# Altium footprint library FootPrintLib.PcbLib: 42 footprints (part 3 of 3)
Each footprint in its own frame and in the unit in brackets; x right, y up, seen from the top. Pads: shape width x height; smd on the part's side, far side on the other; paste and mask are expansions set on the pad; w line width, h text height; cw(c..) or ccw(c..) is an arc to the next point about the centre after c.
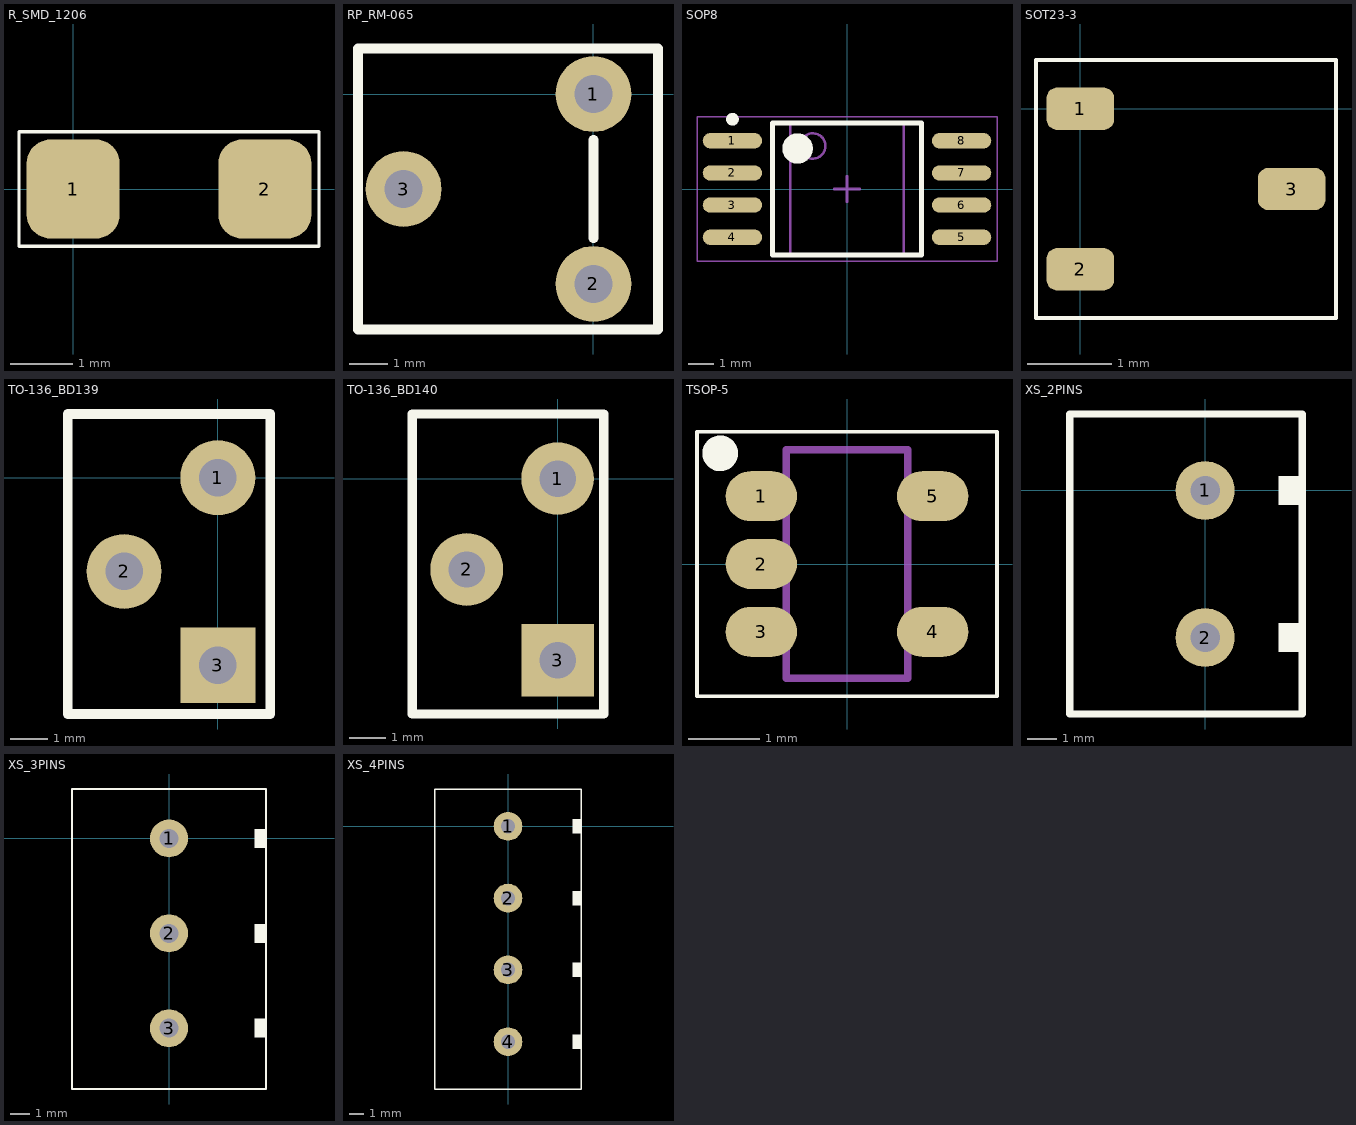
[diagram p2: the footprints below, top view; thin cyan lines are the x and y axes]

## R_SMD_1206 [mm]
pads (2):
  rrect50% 1.5x1.6 smd: 1(0,0) 2(3.1,0)
Top Overlay:
  lines w0.05: -0.875,-0.925 3.975,-0.925 3.975,0.925 -0.875,0.925 -0.875,-0.925
3D body "RES1206.stp": height 0.55, standoff 0, extent 0,-0.78 3.1,0.772

## RP_RM-065 [mm]
pads (3):
  round 2 hole 1: 1(0,0) 2(0,-5) 3(-5,-2.5)
Top Overlay:
  lines w0.254: 0,-3.8 0,-1.2 ; -6.2,-6.2 1.7,-6.2 1.7,1.2 -6.2,1.2 -6.2,-6.2
3D body "Potentiometer_Trim_THT.step": height 8.35, standoff -2.7, extent -5.6,-5.7 1.6,0.78

## SOP8 [mm]
height 2.65
pads (8):
  oval 2.35x0.6 smd: 1(-4.525,1.905) 2(-4.525,0.635) 3(-4.525,-0.635) 4(-4.525,-1.905) 5(4.525,-1.905) 6(4.525,-0.635) 7(4.525,0.635) 8(4.525,1.905)
Top Overlay:
  circle w0.25: c-4.525,2.755 r0.125
  circle w0.6: c-1.95,1.6 r0.3
  lines w0.2: -2.95,-2.6 -2.95,2.6 2.95,2.6 2.95,-2.6 -2.95,-2.6
Mechanical 13:
  circle w0.1: c-1.35,1.7 r0.5
  lines w0.1: -2.25,-2.6 -2.25,2.6 2.25,2.6 2.25,-2.6 -2.25,-2.6
Mechanical 15:
  lines w0.05: -5.925,-2.85 -5.925,2.85 5.925,2.85 5.925,-2.85 -5.925,-2.85
  lines w0.1: -0.5,0 0.5,0 ; 0,-0.5 0,0.5
3D body: height 2.65, standoff 0.1, extent -2.25,-2.6 2.25,2.6

## SOT23-3 [mm]
pads (3):
  rrect50% 0.8x0.5 smd: 1(0,0) 2(0,-1.9) 3(2.5,-0.95)
Top Overlay:
  lines w0.05: -0.525,-2.475 3.025,-2.475 3.025,0.575 -0.525,0.575 -0.525,-2.475
3D body "SOT23-3.step": height 1.1, standoff 0, extent 0,-2.45 2.5,0.55

## TO-136_BD139 [mm]
pads (3):
  round 2 hole 1: 1(0,0) 2(-2.5,-2.5)
  rect 2x2 hole 1: 3(0,-5)
Top Overlay:
  lines w0.254: -4,-6.3 1.397,-6.3 1.397,1.7 -4,1.7 -4,-6.3
3D body "BD139.stp": height 14.05, standoff -13, extent -1.634,-6.186 1.266,1.614

## TO-136_BD140 [mm]
pads (3):
  round 2 hole 1: 1(0,0) 2(-2.5,-2.5)
  rect 2x2 hole 1: 3(0,-5)
Top Overlay:
  lines w0.254: -4,-6.477 1.27,-6.477 1.27,1.778 -4,1.778 -4,-6.477
3D body "BD140.SLDPRT": height 12.4, standoff -14.4, extent -1.701,-6.3 1,1.5

## TSOP-5 [mm]
height 1
pads (5):
  oval 1x0.7 smd: 1(-1.2,0.95) 2(-1.2,0) 3(-1.2,-0.95) 4(1.2,-0.95) 5(1.2,0.95)
Top Overlay:
  circle w0.25: c-1.775,1.55 r0.125
  lines w0.05: -2.1,-1.85 2.1,-1.85 2.1,1.85 -2.1,1.85 -2.1,-1.85
Mechanical 13:
  lines w0.1: -0.85,-1.6 0.85,-1.6 0.85,1.6 -0.85,1.6 -0.85,-1.6
3D body: height 1, standoff 0.1, extent -0.85,-1.6 0.85,1.6

## XS_2PINS [mm]
pads (2):
  round 2 hole 1: 1(0,0) 2(0,-5)
Top Overlay:
  rectangle: 2.5,-0.5 3.3,0.5
  rectangle: 2.5,-5.5 3.3,-4.5
  lines w0.254: -4.6,-7.6 3.3,-7.6 3.3,2.6 -4.6,2.6 -4.6,-7.6
3D body "KF301-5.0-2P.step": height 11, standoff -2.6, extent -4.5,-7.5 3.2,2.5

## XS_3PINS [mm]
pads (3):
  round 2 hole 1: 1(0,0) 2(0,-5) 3(0,-10)
Top Overlay:
  rectangle: 4.5,-0.5 5.1,0.5
  rectangle: 4.5,-5.5 5.1,-4.5
  rectangle: 4.5,-10.5 5.1,-9.5
  lines w0.1: -5.1,-13.2 -5.1,2.6 5.1,2.6 5.1,-13.2 -5.1,-13.2
3D body "Terminal Block 3P.step": height 14, standoff -4.25, extent -5,-13.1 5,2.54

## XS_4PINS [mm]
pads (4):
  round 2 hole 1: 1(0,0) 2(0,-5) 3(0,-10) 4(0,-15)
Top Overlay:
  rectangle: 4.5,-0.5 5.1,0.5
  rectangle: 4.5,-5.5 5.1,-4.5
  rectangle: 4.5,-10.5 5.1,-9.5
  rectangle: 4.5,-15.5 5.1,-14.5
  lines w0.1: -5.1,-18.3 -5.1,2.6 5.1,2.6 5.1,-18.3 -5.1,-18.3
3D body "4er Terminal Block.step": height 14, standoff -4.25, extent -5,-18.18 5,2.54